# Altium footprint library IND_ETQP4M4R7YFP.PcbLib: 1 footprints
Each footprint in its own frame and in the unit in brackets; x right, y up, seen from the top. Pads: shape width x height; smd on the part's side, far side on the other; paste and mask are expansions set on the pad; w line width, h text height; cw(c..) or ccw(c..) is an arc to the next point about the centre after c.
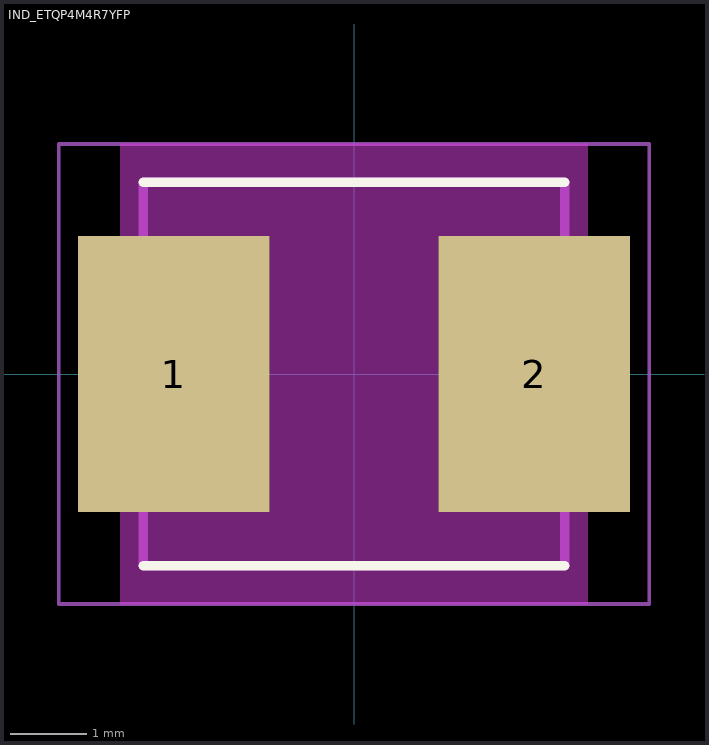
[diagram p0: the footprint, top view; thin cyan lines are the x and y axes]

## IND_ETQP4M4R7YFP [mm]
pads (2):
  rect 2.5x3.6 smd: 1(-2.35,0) 2(2.35,0)
Top Overlay:
  lines w0.127: -2.75,-2.5 2.75,-2.5 ; -2.75,2.5 2.75,2.5
Keep-Out Layer:
  region: 3.05,1.8 1.1,1.8 1.1,-1.8 3.05,-1.8 3.05,-3 -3.05,-3 -3.05,-1.8 -1.1,-1.8 -1.1,1.8 -3.05,1.8 -3.05,3 3.05,3
  region: 3.05,1.8 1.1,1.8 1.1,-1.8 3.05,-1.8 3.05,-3 -3.05,-3 -3.05,-1.8 -1.1,-1.8 -1.1,1.8 -3.05,1.8 -3.05,3 3.05,3
Mechanical 13:
  lines w0.127: -2.75,-2.5 -2.75,2.5 2.75,2.5 2.75,-2.5 -2.75,-2.5
Mechanical 15:
  lines w0.05: -3.85,-3 -3.85,3 3.85,3 3.85,-3 -3.85,-3
3D body "step_temp.STEP": height 2.98, standoff -1.02, extent -2.17,-8 3.33,-3